# EAGLE library part HCF4093BEY (library ST Microelctronics_By_element14_Batch_1)
QUAD 2-input NAND Schmitt trigger
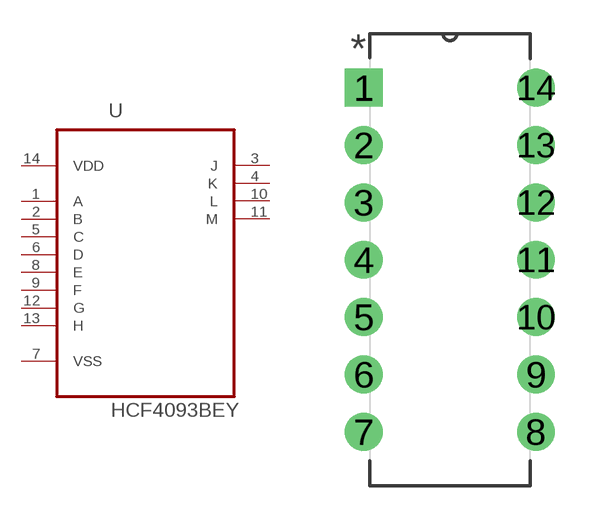
[diagram p21: symbol with the pads of DIP254P762X510-14; footprint DIP254P762X510-14]

Designator prefix U

## HCF4093BEY (MPN: HCF4093BEY; OC_FARNELL: 1652025; OC_NEWARK: 89K0587; PACKAGE: PDIP-14; SUPPLIER: STMICROELECTRONICS)  [DIP254P762X510-14]
1  A  in
2  B  in
3  J  out
4  K  out
5  C  in
6  D  in
7  VSS  pwr
8  E  in
9  F  in
10  L  out
11  M  out
12  G  in
13  H  in
14  VDD  pwr

## Footprint DIP254P762X510-14 (pad centres in mm)
drill 1.118 square: 1 -7.62,15.24
drill 1.118: 2 -7.62,12.7; 3 -7.62,10.16; 4 -7.62,7.62; 5 -7.62,5.08; 6 -7.62,2.54; 7 -7.62,0; 8 0,0; 9 0,2.54; 10 0,5.08; 11 0,7.62; 12 0,10.16; 13 0,12.7; 14 0,15.24